# EAGLE library part LT4320 (library simple-se)
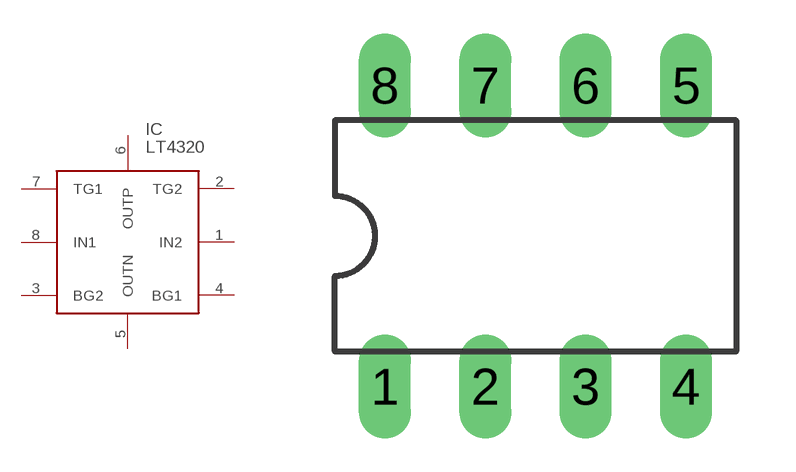
[diagram p0: symbol with the pads of DIL08; footprint DIL08]

Designator prefix IC

## LT4320 (VALUE: LT4320)  [DIL08]
1  IN2
2  TG2
3  BG2
4  BG1
5  OUTN
6  OUTP
7  TG1
8  IN1

## Footprint DIL08 (pad centres in mm)
Dual In Line Package
drill 0.813 long: 1 -3.81,-3.81; 2 -1.27,-3.81; 3 1.27,-3.81; 4 3.81,-3.81; 5 3.81,3.81; 6 1.27,3.81; 7 -1.27,3.81; 8 -3.81,3.81